# Altium footprint library protoboard.PcbLib: 9 footprints
Each footprint in its own frame and in the unit in brackets; x right, y up, seen from the top. Pads: shape width x height; smd on the part's side, far side on the other; paste and mask are expansions set on the pad; w line width, h text height; cw(c..) or ccw(c..) is an arc to the next point about the centre after c.
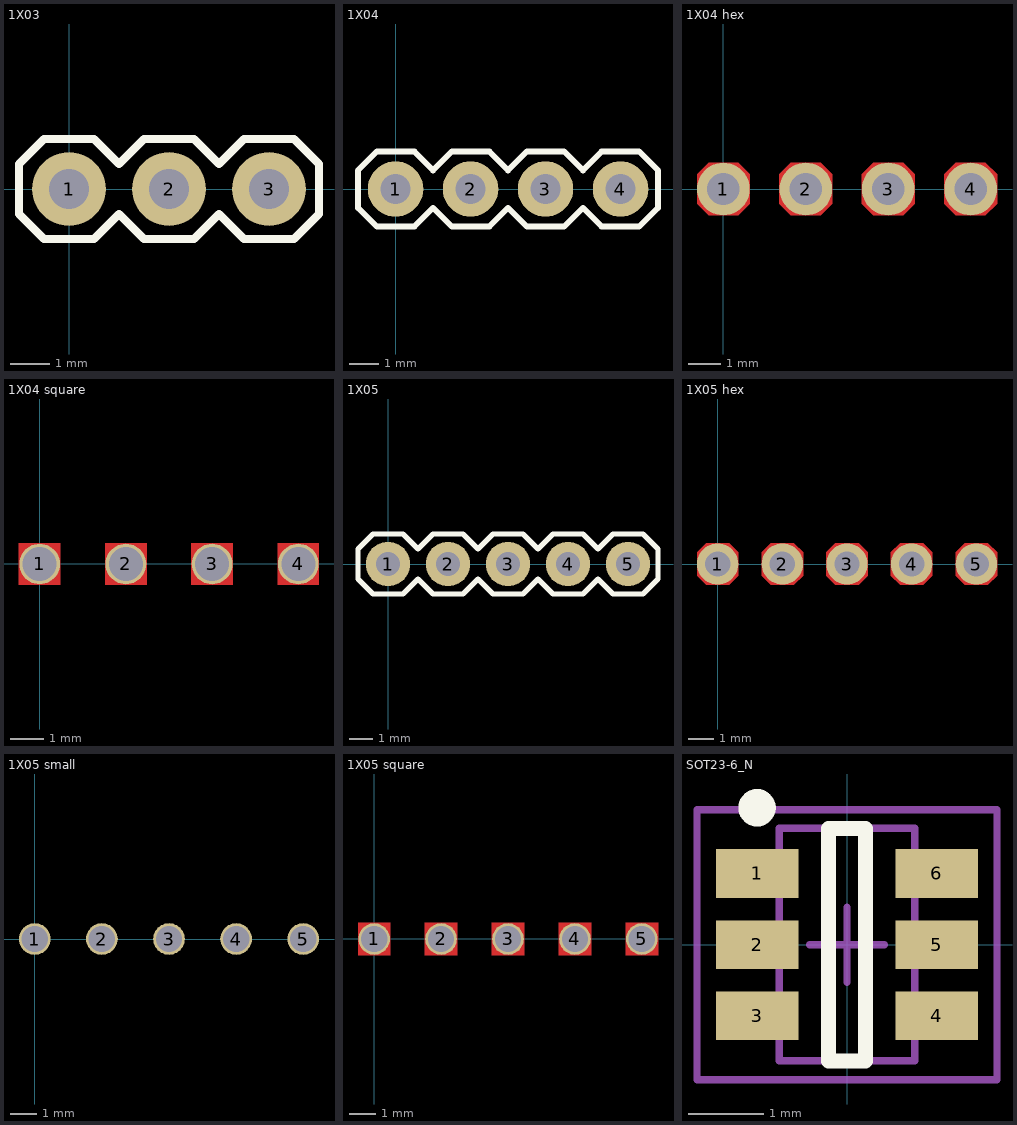
[diagram p0: the footprints below, top view; thin cyan lines are the x and y axes]

## 1X03 [mil] "1x03 100mil-pitch header with 40mil holes, 74mil pads, and outline"
pads (3):
  round 74 hole 40: 1(0,0) 2(100,0) 3(200,0)
Top Overlay:
  lines w8: -50,-25 -25,-50 25,-50 50,-25 75,-50 125,-50 150,-25 175,-50 225,-50 250,-25 250,25 225,50 175,50 150,25 125,50 75,50 50,25 25,50 -25,50 -50,25 -50,-25
Mechanical 16:
  rectangle: -10,-10 10,10
  rectangle: 90,-10 110,10
  rectangle: 190,-10 210,10

## 1X04 [mil] "1x04 100mil-pitch header with 40mil holes, 74mil pads, and outline"
pads (4):
  round 74 hole 40: 1(0,0) 2(100,0) 3(200,0) 4(300,0)
Top Overlay:
  lines w8: -50,-25 -25,-50 25,-50 50,-25 75,-50 125,-50 150,-25 175,-50 225,-50 250,-25 275,-50 325,-50 350,-25 350,25 325,50 275,50 250,25 225,50 175,50 150,25 125,50 75,50 50,25 25,50 -25,50 -50,25 -50,-25
Mechanical 16:
  rectangle: -10,-10 10,10
  rectangle: 90,-10 110,10
  rectangle: 190,-10 210,10
  rectangle: 290,-10 310,10

## 1X04 hex [mil] "1x04 100mil-pitch header with 64mil hex pads"
pads (4):
  round 64 / inner round 47.24 / far side round 47.24 hole 39.37: 1(0,0) 2(100,0) 3(200,0) 4(300,0)
Top Layer:
  region: 32,18 32,-18 18,-32 -18,-32 -32,-18 -32,18 -18,32 18,32
  region: 132,18 132,-18 118,-32 82,-32 68,-18 68,18 82,32 118,32
  region: 232,18 232,-18 218,-32 182,-32 168,-18 168,18 182,32 218,32
  region: 332,18 332,-18 318,-32 282,-32 268,-18 268,18 282,32 318,32
Mechanical 16:
  rectangle: -10,-10 10,10
  rectangle: 90,-10 110,10
  rectangle: 190,-10 210,10
  rectangle: 290,-10 310,10

## 1X04 square [mm] "1x04 100mil-pitch header with 1mm hole and 48mil square pads"
pads (4):
  round 1.2 hole 1: 1(0,0) 2(2.54,0) 3(5.08,0) 4(7.62,0)
Top Layer:
  region: -0.61,0.61 0.61,0.61 0.61,-0.61 -0.61,-0.61
  region: 1.93,0.61 3.15,0.61 3.15,-0.61 1.93,-0.61
  region: 4.47,0.61 5.69,0.61 5.69,-0.61 4.47,-0.61
  region: 7.01,0.61 8.23,0.61 8.23,-0.61 7.01,-0.61
Mechanical 16:
  rectangle: -0.254,-0.254 0.254,0.254
  rectangle: 2.286,-0.254 2.794,0.254
  rectangle: 4.826,-0.254 5.334,0.254
  rectangle: 7.366,-0.254 7.874,0.254

## 1X05 [mil] "1x05 100mil-pitch header with 40mil holes, 74mil pads, and outline"
pads (5):
  round 74 hole 40: 1(0,0) 2(100,0) 3(200,0) 4(300,0) 5(400,0)
Top Overlay:
  lines w8: -50,-25 -25,-50 25,-50 50,-25 75,-50 125,-50 150,-25 175,-50 225,-50 250,-25 275,-50 325,-50 350,-25 375,-50 425,-50 450,-25 450,25 425,50 375,50 350,25 325,50 275,50 250,25 225,50 175,50 150,25 125,50 75,50 50,25 25,50 -25,50 -50,25 -50,-25
Mechanical 16:
  rectangle: -10,-10 10,10
  rectangle: 90,-10 110,10
  rectangle: 190,-10 210,10
  rectangle: 290,-10 310,10
  rectangle: 390,-10 410,10

## 1X05 hex [mil] "1x05 100mil-pitch header with 64mil hex pads"
pads (5):
  round 64 / inner round 47.24 / far side round 47.24 hole 39.37: 1(0,0) 2(100,0) 3(200,0) 4(300,0) 5(400,0)
Top Layer:
  region: 32,18 32,-18 18,-32 -18,-32 -32,-18 -32,18 -18,32 18,32
  region: 132,18 132,-18 118,-32 82,-32 68,-18 68,18 82,32 118,32
  region: 232,18 232,-18 218,-32 182,-32 168,-18 168,18 182,32 218,32
  region: 332,18 332,-18 318,-32 282,-32 268,-18 268,18 282,32 318,32
  region: 432,18 432,-18 418,-32 382,-32 368,-18 368,18 382,32 418,32
Mechanical 16:
  rectangle: -10,-10 10,10
  rectangle: 90,-10 110,10
  rectangle: 190,-10 210,10
  rectangle: 290,-10 310,10
  rectangle: 390,-10 410,10

## 1X05 small [mm] "1x05 100mil-pitch header with 1mm holes and 1.2mm pads"
pads (5):
  round 1.2 hole 1: 1(0,0) 2(2.54,0) 3(5.08,0) 4(7.62,0) 5(10.16,0)
Mechanical 16:
  rectangle: 9.906,-0.254 10.414,0.254
  rectangle: 7.366,-0.254 7.874,0.254
  rectangle: 4.826,-0.254 5.334,0.254
  rectangle: 2.286,-0.254 2.794,0.254
  rectangle: -0.254,-0.254 0.254,0.254

## 1X05 square [mm] "1x05 100mil-pitch header with 1mm hole and 48mil square pads"
pads (5):
  round 1.2 hole 1: 1(0,0) 2(2.54,0) 3(5.08,0) 4(7.62,0) 5(10.16,0)
Top Layer:
  region: 9.55,0.61 10.77,0.61 10.77,-0.61 9.55,-0.61
  region: 7.01,0.61 8.23,0.61 8.23,-0.61 7.01,-0.61
  region: 4.47,0.61 5.69,0.61 5.69,-0.61 4.47,-0.61
  region: 1.93,0.61 3.15,0.61 3.15,-0.61 1.93,-0.61
  region: -0.61,0.61 0.61,0.61 0.61,-0.61 -0.61,-0.61
Mechanical 16:
  rectangle: 9.906,-0.254 10.414,0.254
  rectangle: 7.366,-0.254 7.874,0.254
  rectangle: 4.826,-0.254 5.334,0.254
  rectangle: 2.286,-0.254 2.794,0.254
  rectangle: -0.254,-0.254 0.254,0.254

## SOT23-6_N [mm] "SOT23, 6-Leads, Body 2.9x1.6mm, Pitch 0.95mm, Lead Span 2.7mm, IPC Medium Density"
height 1.45
pads (6):
  rect 1.1x0.65 smd: 1(-1.2,0.95) 2(-1.2,0) 3(-1.2,-0.95) 4(1.2,-0.95) 5(1.2,0) 6(1.2,0.95)
Top Overlay:
  circle w0.25: c-1.2,1.825 r0.125
  lines w0.2: -0.25,-1.55 0.25,-1.55 0.25,1.55 -0.25,1.55 -0.25,-1.55
Mechanical 13:
  lines w0.1: -0.9,-1.55 -0.9,1.55 0.9,1.55 0.9,-1.55 -0.9,-1.55
Mechanical 15:
  lines w0.1: -0.5,0 0.5,0 ; 0,-0.5 0,0.5 ; -2,-1.8 -2,1.8 2,1.8 2,-1.8 -2,-1.8
3D body: height 1.45, standoff 0, extent -0.9,-1.55 0.9,1.55